# EAGLE library part IS42S16100T (library memory)
512K Words x 16 Bits x 2 Banks (16-MBIT) SYNCHRONOUS DYNAMIC RAM Source: www.issi.com .. IS42S16100.pdf
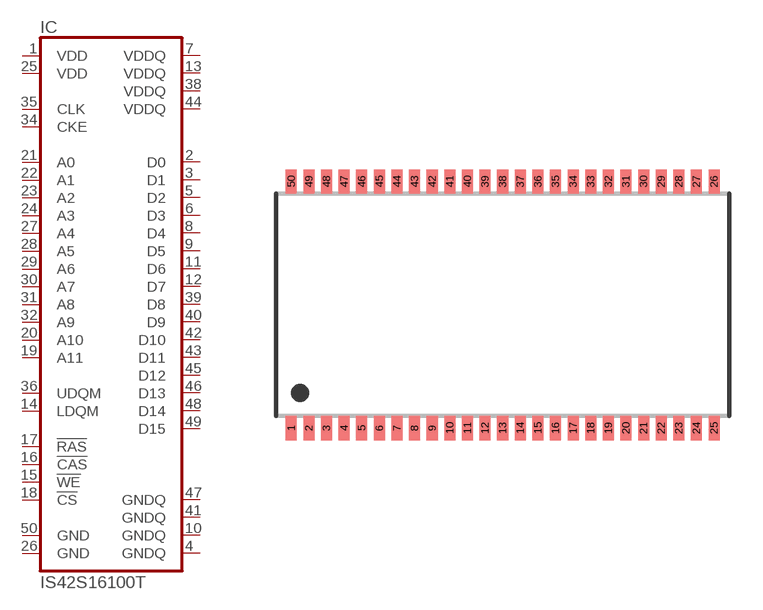
[diagram p78: symbol with the pads of TSOP50-II; footprint TSOP50-II]

Designator prefix IC

## IS42S16100T  [TSOP50-II]
1  VDD  pwr
2  D0
3  D1
4  GNDQ  pwr
5  D2
6  D3
7  VDDQ  pwr
8  D4
9  D5
10  GNDQ  pwr
11  D6
12  D7
13  VDDQ  pwr
14  LDQM  in
15  !WE  in
16  !CAS  in
17  !RAS  in
18  !CS  in
19  A11  in
20  A10  in
21  A0  in
22  A1  in
23  A2  in
24  A3  in
25  VDD  pwr
26  GND  pwr
27  A4  in
28  A5  in
29  A6  in
30  A7  in
31  A8  in
32  A9  in
34  CKE  in
35  CLK  in
36  UDQM  in
38  VDDQ  pwr
39  D8
40  D9
41  GNDQ  pwr
42  D10
43  D11
44  VDDQ  pwr
45  D12
46  D13
47  GNDQ  pwr
48  D14
49  D15
50  GND  pwr

## Footprint TSOP50-II (pad centres in mm)
TSOP 50 Type II Source: www.issi.com .. IS42S16100.pdf
smd 0.5 x 1.1: 1 -9.6,-5.6; 2 -8.8,-5.6; 3 -8,-5.6; 4 -7.2,-5.6; 5 -6.4,-5.6; 6 -5.6,-5.6; 7 -4.8,-5.6; 8 -4,-5.6; 9 -3.2,-5.6; 10 -2.4,-5.6; 11 -1.6,-5.6; 12 -0.8,-5.6; 13 0,-5.6; 14 0.8,-5.6; 15 1.6,-5.6; 16 2.4,-5.6; 17 3.2,-5.6; 18 4,-5.6; 19 4.8,-5.6; 20 5.6,-5.6; 21 6.4,-5.6; 22 7.2,-5.6; 23 8,-5.6; 24 8.8,-5.6; 25 9.6,-5.6; 26 9.6,5.6; 27 8.8,5.6; 28 8,5.6; 29 7.2,5.6; 30 6.4,5.6; 31 5.6,5.6; 32 4.8,5.6; 33 4,5.6; 34 3.2,5.6; 35 2.4,5.6; 36 1.6,5.6; 37 0.8,5.6; 38 0,5.6; 39 -0.8,5.6; 40 -1.6,5.6; 41 -2.4,5.6; 42 -3.2,5.6; 43 -4,5.6; 44 -4.8,5.6; 45 -5.6,5.6; 46 -6.4,5.6; 47 -7.2,5.6; 48 -8,5.6; 49 -8.8,5.6; 50 -9.6,5.6